# Altium schematic symbol library EEUFR1H100.SchLib: 2 symbols
Pins are listed as number, name and electrical type; pins without a type are passive.

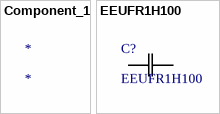
[diagram p0: symbols Component_1 to EEUFR1H100]

## Component_1
designator *

## EEUFR1H100
designator C?
No Description Available; Manufacturer_Name: Panasonic; Copyright: Copyright (C) 2026 Ultra Librarian. All rights reserved.; Manufacturer_Part_Number: EEUFR1H100
footprint CAP_PAN_5X11_PAN
pins: 1, 2